# Altium schematic symbol library Connectors.SchLib: 2 symbols
Pins are listed as number, name and electrical type; pins without a type are passive.

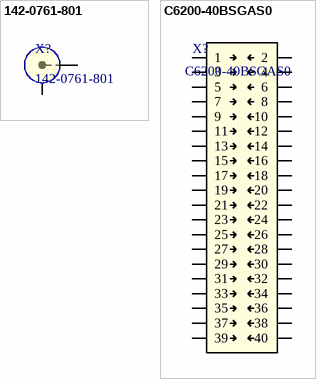
[diagram p0: symbols 142-0761-801 to C6200-40BSGAS0]

## 142-0761-801
designator X?
SMA-Jack(Female), 26.5GHz, PCB Mount; Manufacturer: Cinch Connectivity Solutions; Category: Coaxial Connectors; partNo: 142-0761-801; Package/Case: SMT
footprint 142-0761-801 (SMA-Jack(Female), 26.5 GHz, PCB Mount)
pins: 1, 2

## C6200-40BSGAS0
designator X?
Vertical, pitch 2mm, pins 40, Thru-Hole, isol 2mm; Manufacturer: Connfly; Pin Number: 40; ComponentLink1Description: Manufacturer; ComponentLink1URL: http://www.we-online.de; ComponentLink2Description: Datasheet; ComponentLink2URL: http://katalog.we-online.de/em/datasheet/6201xx131822.pdf; Part Number: C6200-40BSGAS0; Pitch: 2mm
footprint C6200-40BSGAS0 (step 2mm, h 2mm, 2x20 pins, TH)
pins: 1, 2, 3, 4, 5, 6, 7, 8, 9, 10, 11, 12, 13, 14, 15, 16, 17, 18, 19, 20, 21, 22, 23, 24, 25, 26, 27, 28, 29, 30, 31, 32, 33, 34, 35, 36, 37, 38, 39, 40